# EAGLE library part USB_MICRO_B_HOLE (library DECADE-libraries20151104)
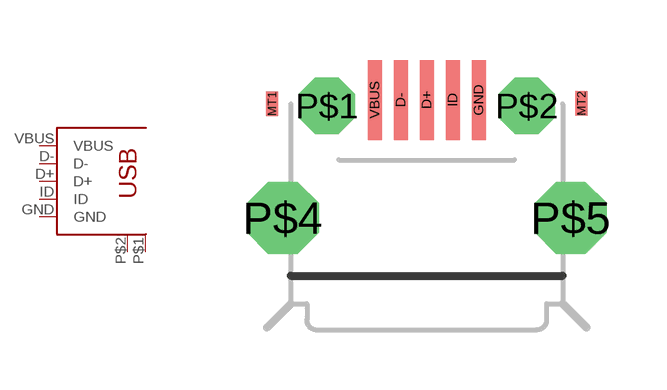
[diagram p117: symbol with the pads of USB-MICROB; footprint USB-MICROB]

Designator prefix -

## USB_MICRO_B_HOLE  [USB-MICROB]
D+  D+
D-  D-
GND  GND
ID  ID
P$1  P$2
P$2  P$1
VBUS  VBUS

## Footprint USB-MICROB (pad centres in mm)
Micro USB Package
smd 0.35 x 2: D+ 0,2.95; D- -0.65,2.95; GND 1.3,2.95; ID 0.65,2.95; VBUS -1.3,2.95
smd 0.305 x 0.61: MT1 -3.87,2.85; MT2 3.87,2.86
drill 0.9 octagon: P$1 -2.5,2.8; P$2 2.5,2.8
drill 1.2 octagon: P$4 -3.6,0; P$5 3.6,0